# Altium schematic symbol library WE-XTAL.SchLib: 324 symbols (part 2 of 6)
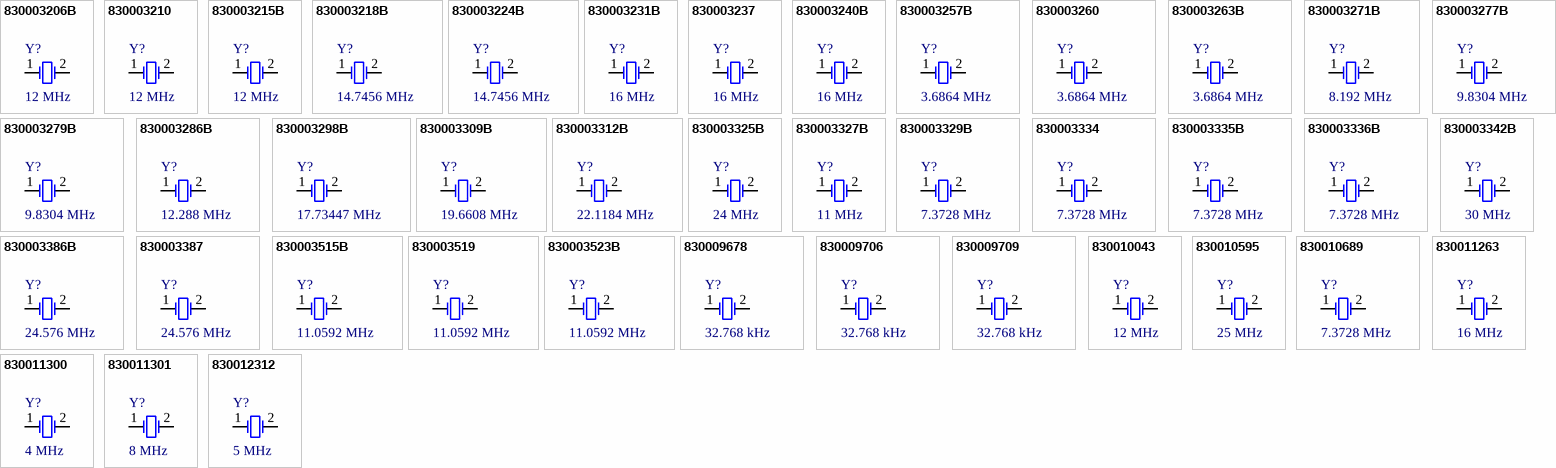
[diagram p9: symbols 830003206B to 830012312]

## 830003335B
designator Y?, comment 7.3728 MHz
WE-XTAL Quartz Crystal, THT, HC49/4H, 7.3728 MHz, ±30ppm; Manufacturer Part Number: 830003335B; Manufacturer: Wurth Elektronik; Frequency Stability: 50ppm; Load Capacitance: 30pF; Category: Crystals; Match Code: WE-XTAL; ComponentLink1Description: Website Link; ComponentLink1URL: https://www.we-online.com/redexpert/article/830003335B?ad; ComponentLink2Description: Datasheet Link; ComponentLink2URL: https://www.we-online.com/redexpert/spec/830003335B?ad; Mount: Through Hole; Min Operating Temperature: -10°C; Max Operating Temperature: 60°C; Packaging: Bulk; Case/Size Code: HC49/4H; Length: 11.35mm; Width: 4.85mm; Height: 4mm; Application: Processor, UART; Frequency: 7.3728 MHz; Frequency Tolerance: ±30ppm
footprint WE-XTAL_HC49/4H
pins: 1 OSC1, 2 OSC2

## 830003336B
designator Y?, comment 7.3728 MHz
WE-XTAL Quartz Crystal, THT, HC49/4H, 7.3728 MHz, ±15ppm; Manufacturer Part Number: 830003336B; Manufacturer: Wurth Elektronik; Frequency Stability: 30ppm; Load Capacitance: 18pF; Category: Crystals; Match Code: WE-XTAL; ComponentLink1Description: Website Link; ComponentLink1URL: https://www.we-online.com/redexpert/article/830003336B?ad; ComponentLink2Description: Datasheet Link; ComponentLink2URL: https://www.we-online.com/redexpert/spec/830003336B?ad; Mount: Through Hole; Min Operating Temperature: -10°C; Max Operating Temperature: 60°C; Packaging: Bulk; Case/Size Code: HC49/4H; Length: 11.35mm; Width: 4.85mm; Height: 4mm; Application: Processor, UART; Frequency: 7.3728 MHz; Frequency Tolerance: ±15ppm
footprint WE-XTAL_HC49/4H
pins: 1 OSC1, 2 OSC2

## 830003342B
designator Y?, comment 30 MHz
WE-XTAL Quartz Crystal, THT, HC49, 30 MHz, ±20ppm; Manufacturer Part Number: 830003342B; Manufacturer: Wurth Elektronik; Frequency Stability: 50ppm; Load Capacitance: 0pF; Category: Crystals; Match Code: WE-XTAL; ComponentLink1Description: Website Link; ComponentLink1URL: https://www.we-online.com/redexpert/article/830003342B?ad; ComponentLink2Description: Datasheet Link; ComponentLink2URL: https://www.we-online.com/redexpert/spec/830003342B?ad; Mount: Through Hole; Min Operating Temperature: -10°C; Max Operating Temperature: 60°C; Packaging: Bulk; Case/Size Code: HC49; Length: 11.05mm; Width: 4.7mm; Height: 13.49mm; Application: Processor, USB; Frequency: 30 MHz; Frequency Tolerance: ±20ppm
footprint WE-XTAL_HC49
pins: 1 OSC1, 2 OSC2

## 830003386B
designator Y?, comment 24.576 MHz
WE-XTAL Quartz Crystal, THT, HC49, 24.576 MHz, ±20ppm; Manufacturer Part Number: 830003386B; Manufacturer: Wurth Elektronik; Frequency Stability: 50ppm; Load Capacitance: 30pF; Category: Crystals; Match Code: WE-XTAL; ComponentLink1Description: Website Link; ComponentLink1URL: https://www.we-online.com/redexpert/article/830003386B?ad; ComponentLink2Description: Datasheet Link; ComponentLink2URL: https://www.we-online.com/redexpert/spec/830003386B?ad; Mount: Through Hole; Min Operating Temperature: -10°C; Max Operating Temperature: 60°C; Packaging: Bulk; Case/Size Code: HC49; Length: 11.05mm; Width: 4.7mm; Height: 13.49mm; Application: UART, Audio; Frequency: 24.576 MHz; Frequency Tolerance: ±20ppm
footprint WE-XTAL_HC49
pins: 1 OSC1, 2 OSC2

## 830003387
designator Y?, comment 24.576 MHz
WE-XTAL Quartz Crystal, SMT, HC49/4HSMX, 24.576 MHz, ±30ppm; Manufacturer Part Number: 830003387; Manufacturer: Wurth Elektronik; Frequency Stability: 50ppm; Load Capacitance: 20pF; Category: Crystals; Match Code: WE-XTAL; ComponentLink1Description: Website Link; ComponentLink1URL: https://www.we-online.com/redexpert/article/830003387?ad; ComponentLink2Description: Datasheet Link; ComponentLink2URL: https://www.we-online.com/redexpert/spec/830003387?ad; Mount: Surface Mount; Min Operating Temperature: -10°C; Max Operating Temperature: 60°C; Packaging: Tape and Reel; Case/Size Code: HC49/4HSMX; Length: 12.4mm; Width: 4.7mm; Height: 4.5mm; Application: UART, Audio; Frequency: 24.576 MHz; Frequency Tolerance: ±30ppm
footprint WE-XTAL_HC49/4HSMX
pins: 1 OSC1, 2 OSC2

## 830003515B
designator Y?, comment 11.0592 MHz
WE-XTAL Quartz Crystal, THT, HC49, 11.0592 MHz, ±20ppm; Manufacturer Part Number: 830003515B; Manufacturer: Wurth Elektronik; Frequency Stability: 30ppm; Load Capacitance: 20pF; Category: Crystals; Match Code: WE-XTAL; ComponentLink1Description: Website Link; ComponentLink1URL: https://www.we-online.com/redexpert/article/830003515B?ad; ComponentLink2Description: Datasheet Link; ComponentLink2URL: https://www.we-online.com/redexpert/spec/830003515B?ad; Mount: Through Hole; Min Operating Temperature: -10°C; Max Operating Temperature: 60°C; Packaging: Bulk; Case/Size Code: HC49; Length: 11.05mm; Width: 4.7mm; Height: 13.49mm; Application: Processor, UART; Frequency: 11.0592 MHz; Frequency Tolerance: ±20ppm
footprint WE-XTAL_HC49
pins: 1 OSC1, 2 OSC2

## 830003519
designator Y?, comment 11.0592 MHz
WE-XTAL Quartz Crystal, SMT, HC49/4HSMX, 11.0592 MHz, ±30ppm; Manufacturer Part Number: 830003519; Manufacturer: Wurth Elektronik; Frequency Stability: 50ppm; Load Capacitance: 16pF; Category: Crystals; Match Code: WE-XTAL; ComponentLink1Description: Website Link; ComponentLink1URL: https://www.we-online.com/redexpert/article/830003519?ad; ComponentLink2Description: Datasheet Link; ComponentLink2URL: https://www.we-online.com/redexpert/spec/830003519?ad; Mount: Surface Mount; Min Operating Temperature: -10°C; Max Operating Temperature: 60°C; Packaging: Tape and Reel; Case/Size Code: HC49/4HSMX; Length: 12.4mm; Width: 4.7mm; Height: 4.5mm; Application: Processor, UART; Frequency: 11.0592 MHz; Frequency Tolerance: ±30ppm
footprint WE-XTAL_HC49/4HSMX
pins: 1 OSC1, 2 OSC2

## 830003523B
designator Y?, comment 11.0592 MHz
WE-XTAL Quartz Crystal, THT, HC49/4H, 11.0592 MHz, ±30ppm; Manufacturer Part Number: 830003523B; Manufacturer: Wurth Elektronik; Frequency Stability: 50ppm; Load Capacitance: 30pF; Category: Crystals; Match Code: WE-XTAL; ComponentLink1Description: Website Link; ComponentLink1URL: https://www.we-online.com/redexpert/article/830003523B?ad; ComponentLink2Description: Datasheet Link; ComponentLink2URL: https://www.we-online.com/redexpert/spec/830003523B?ad; Mount: Through Hole; Min Operating Temperature: -20°C; Max Operating Temperature: 70°C; Packaging: Bulk; Case/Size Code: HC49/4H; Length: 11.35mm; Width: 4.85mm; Height: 4mm; Application: Processor, UART; Frequency: 11.0592 MHz; Frequency Tolerance: ±30ppm
footprint WE-XTAL_HC49/4H
pins: 1 OSC1, 2 OSC2

## 830009678
designator Y?, comment 32.768 kHz
WE-XTAL Watch Crystal, SMT, CFPX-217, 32.768 kHz, ±20ppm; Manufacturer Part Number: 830009678; Manufacturer: Wurth Elektronik; Load Capacitance: 12.5pF; Category: Crystals; Match Code: WE-XTAL; ComponentLink1Description: Website Link; ComponentLink1URL: https://www.we-online.com/redexpert/article/830009678?ad; ComponentLink2Description: Datasheet Link; ComponentLink2URL: https://www.we-online.com/redexpert/spec/830009678?ad; Mount: Surface Mount; Min Operating Temperature: -40°C; Max Operating Temperature: 85°C; Packaging: Tape and Reel; Case/Size Code: CFPX-217; Length: 3.2mm; Width: 1.5mm; Height: 0.9mm; Application: Real Time Clock; Frequency: 32.768 kHz; Frequency Tolerance: ±20ppm
footprint WE-XTAL_CFPX-217
pins: 1 OSC1, 2 OSC2

## 830009706
designator Y?, comment 32.768 kHz
WE-XTAL Watch Crystal, SMT, CFPX-217, 32.768 kHz, ±20ppm; Manufacturer Part Number: 830009706; Manufacturer: Wurth Elektronik; Load Capacitance: 9pF; Category: Crystals; Match Code: WE-XTAL; ComponentLink1Description: Website Link; ComponentLink1URL: https://www.we-online.com/redexpert/article/830009706?ad; ComponentLink2Description: Datasheet Link; ComponentLink2URL: https://www.we-online.com/redexpert/spec/830009706?ad; Mount: Surface Mount; Min Operating Temperature: -40°C; Max Operating Temperature: 85°C; Packaging: Tape and Reel; Case/Size Code: CFPX-217; Length: 3.2mm; Width: 1.5mm; Height: 0.9mm; Application: Real Time Clock; Frequency: 32.768 kHz; Frequency Tolerance: ±20ppm
footprint WE-XTAL_CFPX-217
pins: 1 OSC1, 2 OSC2

## 830009709
designator Y?, comment 32.768 kHz
WE-XTAL Watch Crystal, SMT, CFPX-217, 32.768 kHz, ±20ppm; Manufacturer Part Number: 830009709; Manufacturer: Wurth Elektronik; Load Capacitance: 7pF; Category: Crystals; Match Code: WE-XTAL; ComponentLink1Description: Website Link; ComponentLink1URL: https://www.we-online.com/redexpert/article/830009709?ad; ComponentLink2Description: Datasheet Link; ComponentLink2URL: https://www.we-online.com/redexpert/spec/830009709?ad; Mount: Surface Mount; Min Operating Temperature: -40°C; Max Operating Temperature: 85°C; Packaging: Tape and Reel; Case/Size Code: CFPX-217; Length: 3.2mm; Width: 1.5mm; Height: 0.9mm; Application: Real Time Clock; Frequency: 32.768 kHz; Frequency Tolerance: ±20ppm
footprint WE-XTAL_CFPX-217
pins: 1 OSC1, 2 OSC2

## 830010043
designator Y?, comment 12 MHz
WE-XTAL Quartz Crystal, SMT, HC49/4HSMX, 12 MHz, ±30ppm; Manufacturer Part Number: 830010043; Manufacturer: Wurth Elektronik; Frequency Stability: 50ppm; Load Capacitance: 30pF; Category: Crystals; Match Code: WE-XTAL; ComponentLink1Description: Website Link; ComponentLink1URL: https://www.we-online.com/redexpert/article/830010043?ad; ComponentLink2Description: Datasheet Link; ComponentLink2URL: https://www.we-online.com/redexpert/spec/830010043?ad; Mount: Surface Mount; Min Operating Temperature: -10°C; Max Operating Temperature: 60°C; Packaging: Tape and Reel; Case/Size Code: HC49/4HSMX; Length: 12.4mm; Width: 4.7mm; Height: 4.5mm; Application: Processor, USB, CAN; Frequency: 12 MHz; Frequency Tolerance: ±30ppm
footprint WE-XTAL_HC49/4HSMX
pins: 1 OSC1, 2 OSC2

## 830010595
designator Y?, comment 25 MHz
WE-XTAL Quartz Crystal, SMT, HC49/4HSMX, 25 MHz, ±30ppm; Manufacturer Part Number: 830010595; Manufacturer: Wurth Elektronik; Frequency Stability: 50ppm; Load Capacitance: 16pF; Category: Crystals; Match Code: WE-XTAL; ComponentLink1Description: Website Link; ComponentLink1URL: https://www.we-online.com/redexpert/article/830010595?ad; ComponentLink2Description: Datasheet Link; ComponentLink2URL: https://www.we-online.com/redexpert/spec/830010595?ad; Mount: Surface Mount; Min Operating Temperature: -10°C; Max Operating Temperature: 60°C; Packaging: Tape and Reel; Case/Size Code: HC49/4HSMX; Length: 12.4mm; Width: 4.7mm; Height: 4.5mm; Application: Processor, USB, 3G/4G/5G, Ethernet, Small Cell, PHY, PCI Express; Frequency: 25 MHz; Frequency Tolerance: ±30ppm
footprint WE-XTAL_HC49/4HSMX
pins: 1 OSC1, 2 OSC2

## 830010689
designator Y?, comment 7.3728 MHz
WE-XTAL Quartz Crystal, SMT, HC49/4HSMX, 7.3728 MHz, ±30ppm; Manufacturer Part Number: 830010689; Manufacturer: Wurth Elektronik; Frequency Stability: 50ppm; Load Capacitance: 30pF; Category: Crystals; Match Code: WE-XTAL; ComponentLink1Description: Website Link; ComponentLink1URL: https://www.we-online.com/redexpert/article/830010689?ad; ComponentLink2Description: Datasheet Link; ComponentLink2URL: https://www.we-online.com/redexpert/spec/830010689?ad; Mount: Surface Mount; Min Operating Temperature: -10°C; Max Operating Temperature: 60°C; Packaging: Tape and Reel; Case/Size Code: HC49/4HSMX; Length: 12.4mm; Width: 4.7mm; Height: 4.5mm; Application: Processor, UART; Frequency: 7.3728 MHz; Frequency Tolerance: ±30ppm
footprint WE-XTAL_HC49/4HSMX
pins: 1 OSC1, 2 OSC2

## 830011263
designator Y?, comment 16 MHz
WE-XTAL Quartz Crystal, SMT, HC49/4HSMX, 16 MHz, ±30ppm; Manufacturer Part Number: 830011263; Manufacturer: Wurth Elektronik; Frequency Stability: 50ppm; Load Capacitance: 30pF; Category: Crystals; Match Code: WE-XTAL; ComponentLink1Description: Website Link; ComponentLink1URL: https://www.we-online.com/redexpert/article/830011263?ad; ComponentLink2Description: Datasheet Link; ComponentLink2URL: https://www.we-online.com/redexpert/spec/830011263?ad; Mount: Surface Mount; Min Operating Temperature: -10°C; Max Operating Temperature: 60°C; Packaging: Tape and Reel; Case/Size Code: HC49/4HSMX; Length: 12.4mm; Width: 4.7mm; Height: 4.5mm; Application: Processor, CAN, Bluetooth; Frequency: 16 MHz; Frequency Tolerance: ±30ppm
footprint WE-XTAL_HC49/4HSMX
pins: 1 OSC1, 2 OSC2

## 830011300
designator Y?, comment 4 MHz
WE-XTAL Quartz Crystal, SMT, HC49/4HSMX, 4 MHz, ±30ppm; Manufacturer Part Number: 830011300; Manufacturer: Wurth Elektronik; Frequency Stability: 50ppm; Load Capacitance: 30pF; Category: Crystals; Match Code: WE-XTAL; ComponentLink1Description: Website Link; ComponentLink1URL: https://www.we-online.com/redexpert/article/830011300?ad; ComponentLink2Description: Datasheet Link; ComponentLink2URL: https://www.we-online.com/redexpert/spec/830011300?ad; Mount: Surface Mount; Min Operating Temperature: -10°C; Max Operating Temperature: 60°C; Packaging: Tape and Reel; Case/Size Code: HC49/4HSMX; Length: 12.4mm; Width: 4.7mm; Height: 4.5mm; Application: CAN, Processor; Frequency: 4 MHz; Frequency Tolerance: ±30ppm
footprint WE-XTAL_HC49/4HSMX
pins: 1 OSC1, 2 OSC2

## 830011301
designator Y?, comment 8 MHz
WE-XTAL Quartz Crystal, SMT, HC49/4HSMX, 8 MHz, ±30ppm; Manufacturer Part Number: 830011301; Manufacturer: Wurth Elektronik; Frequency Stability: 50ppm; Load Capacitance: 30pF; Category: Crystals; Match Code: WE-XTAL; ComponentLink1Description: Website Link; ComponentLink1URL: https://www.we-online.com/redexpert/article/830011301?ad; ComponentLink2Description: Datasheet Link; ComponentLink2URL: https://www.we-online.com/redexpert/spec/830011301?ad; Mount: Surface Mount; Min Operating Temperature: -10°C; Max Operating Temperature: 60°C; Packaging: Tape and Reel; Case/Size Code: HC49/4HSMX; Length: 12.4mm; Width: 4.7mm; Height: 4.5mm; Application: Processor, UART; Frequency: 8 MHz; Frequency Tolerance: ±30ppm
footprint WE-XTAL_HC49/4HSMX
pins: 1 OSC1, 2 OSC2

## 830012312
designator Y?, comment 5 MHz
WE-XTAL Quartz Crystal, SMT, HC49/4HSMX, 5 MHz, ±30ppm; Manufacturer Part Number: 830012312; Manufacturer: Wurth Elektronik; Frequency Stability: 50ppm; Load Capacitance: 30pF; Category: Crystals; Match Code: WE-XTAL; ComponentLink1Description: Website Link; ComponentLink1URL: https://www.we-online.com/redexpert/article/830012312?ad; ComponentLink2Description: Datasheet Link; ComponentLink2URL: https://www.we-online.com/redexpert/spec/830012312?ad; Mount: Surface Mount; Min Operating Temperature: -10°C; Max Operating Temperature: 60°C; Packaging: Tape and Reel; Case/Size Code: HC49/4HSMX; Length: 12.4mm; Width: 4.7mm; Height: 4.5mm; Application: Processor; Frequency: 5 MHz; Frequency Tolerance: ±30ppm
footprint WE-XTAL_HC49/4HSMX
pins: 1 OSC1, 2 OSC2

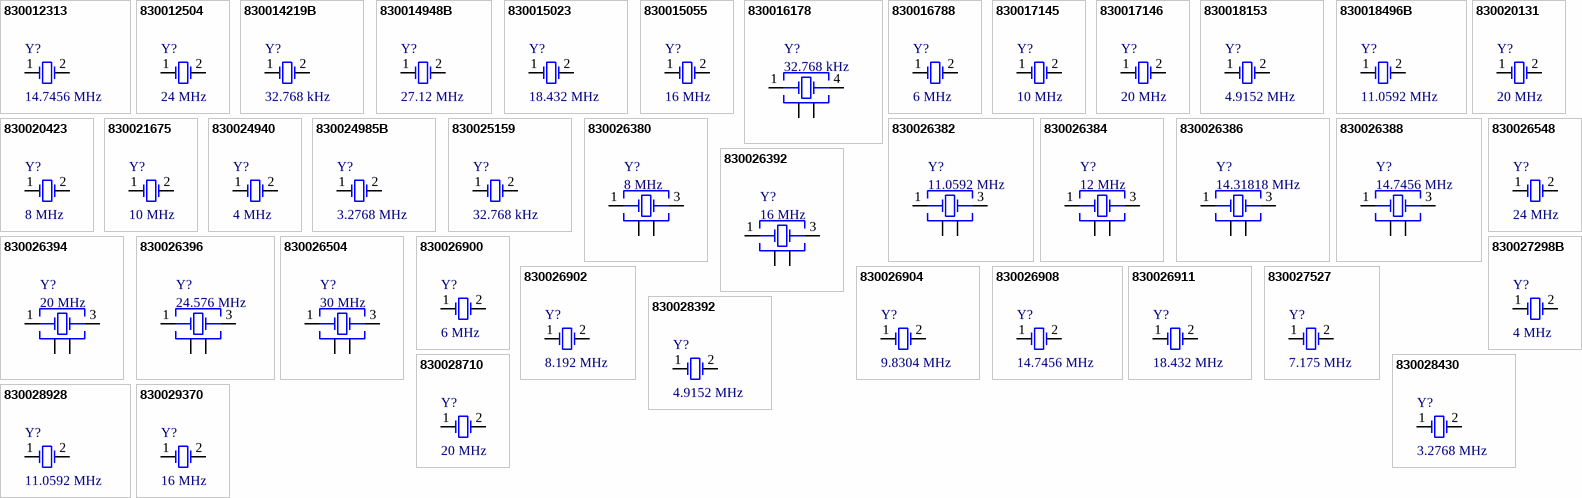
[diagram p2: symbols 830012313 to 830029370]

## 830012313
designator Y?, comment 14.7456 MHz
WE-XTAL Quartz Crystal, SMT, HC49/4HSMX, 14.7456 MHz, ±30ppm; Manufacturer Part Number: 830012313; Manufacturer: Wurth Elektronik; Frequency Stability: 50ppm; Load Capacitance: 30pF; Category: Crystals; Match Code: WE-XTAL; ComponentLink1Description: Website Link; ComponentLink1URL: https://www.we-online.com/redexpert/article/830012313?ad; ComponentLink2Description: Datasheet Link; ComponentLink2URL: https://www.we-online.com/redexpert/spec/830012313?ad; Mount: Surface Mount; Min Operating Temperature: -10°C; Max Operating Temperature: 60°C; Packaging: Tape and Reel; Case/Size Code: HC49/4HSMX; Length: 12.4mm; Width: 4.7mm; Height: 4.5mm; Application: UART; Frequency: 14.7456 MHz; Frequency Tolerance: ±30ppm
footprint WE-XTAL_HC49/4HSMX
pins: 1 OSC1, 2 OSC2

## 830012504
designator Y?, comment 24 MHz
WE-XTAL Quartz Crystal, SMT, HC49/4HSMX, 24 MHz, ±30ppm; Manufacturer Part Number: 830012504; Manufacturer: Wurth Elektronik; Frequency Stability: 50ppm; Load Capacitance: 16pF; Category: Crystals; Match Code: WE-XTAL; ComponentLink1Description: Website Link; ComponentLink1URL: https://www.we-online.com/redexpert/article/830012504?ad; ComponentLink2Description: Datasheet Link; ComponentLink2URL: https://www.we-online.com/redexpert/spec/830012504?ad; Mount: Surface Mount; Min Operating Temperature: -10°C; Max Operating Temperature: 60°C; Packaging: Tape and Reel; Case/Size Code: HC49/4HSMX; Length: 12.4mm; Width: 4.7mm; Height: 4.5mm; Application: Processor, USB, Bluetooth; Frequency: 24 MHz; Frequency Tolerance: ±30ppm
footprint WE-XTAL_HC49/4HSMX
pins: 1 OSC1, 2 OSC2

## 830014219B
designator Y?, comment 32.768 kHz
WE-XTAL Watch Crystal, THT, WATCH, 32.768 kHz, ±20ppm; Manufacturer Part Number: 830014219B; Manufacturer: Wurth Elektronik; Load Capacitance: 6pF; Category: Crystals; Match Code: WE-XTAL; ComponentLink1Description: Website Link; ComponentLink1URL: https://www.we-online.com/redexpert/article/830014219B?ad; ComponentLink2Description: Datasheet Link; ComponentLink2URL: https://www.we-online.com/redexpert/spec/830014219B?ad; Mount: Through Hole; Min Operating Temperature: -40°C; Max Operating Temperature: 85°C; Packaging: Bulk; Case/Size Code: WATCH; Height: 6.2mm; Diameter: 2mm; Application: Real Time Clock; Frequency: 32.768 kHz; Frequency Tolerance: ±20ppm
footprint WE-XTAL_WATCH_D2H6.2
pins: 1 OSC1, 2 OSC2

## 830014948B
designator Y?, comment 27.12 MHz
WE-XTAL Quartz Crystal, THT, HC49/4H, 27.12 MHz, ±30ppm; Manufacturer Part Number: 830014948B; Manufacturer: Wurth Elektronik; Frequency Stability: 50ppm; Load Capacitance: 0pF; Category: Crystals; Match Code: WE-XTAL; ComponentLink1Description: Website Link; ComponentLink1URL: https://www.we-online.com/redexpert/article/830014948B?ad; ComponentLink2Description: Datasheet Link; ComponentLink2URL: https://www.we-online.com/redexpert/spec/830014948B?ad; Mount: Through Hole; Min Operating Temperature: -10°C; Max Operating Temperature: 60°C; Packaging: Bulk; Case/Size Code: HC49/4H; Length: 11.35mm; Width: 4.85mm; Height: 4mm; Application: NFC, RFID; Frequency: 27.12 MHz; Frequency Tolerance: ±30ppm
footprint WE-XTAL_HC49/4H
pins: 1 OSC1, 2 OSC2

## 830015023
designator Y?, comment 18.432 MHz
WE-XTAL Quartz Crystal, SMT, HC49/4HSMX, 18.432 MHz, ±30ppm; Manufacturer Part Number: 830015023; Manufacturer: Wurth Elektronik; Frequency Stability: 50ppm; Load Capacitance: 30pF; Category: Crystals; Match Code: WE-XTAL; ComponentLink1Description: Website Link; ComponentLink1URL: https://www.we-online.com/redexpert/article/830015023?ad; ComponentLink2Description: Datasheet Link; ComponentLink2URL: https://www.we-online.com/redexpert/spec/830015023?ad; Mount: Surface Mount; Min Operating Temperature: -20°C; Max Operating Temperature: 70°C; Packaging: Tape and Reel; Case/Size Code: HC49/4HSMX; Length: 12.4mm; Width: 4.7mm; Height: 4.5mm; Application: UART, Audio; Frequency: 18.432 MHz; Frequency Tolerance: ±30ppm
footprint WE-XTAL_HC49/4HSMX
pins: 1 OSC1, 2 OSC2

## 830015055
designator Y?, comment 16 MHz
WE-XTAL Quartz Crystal, SMT, HC49/4HSMX, 16 MHz, ±30ppm; Manufacturer Part Number: 830015055; Manufacturer: Wurth Elektronik; Frequency Stability: 50ppm; Load Capacitance: 20pF; Category: Crystals; Match Code: WE-XTAL; ComponentLink1Description: Website Link; ComponentLink1URL: https://www.we-online.com/redexpert/article/830015055?ad; ComponentLink2Description: Datasheet Link; ComponentLink2URL: https://www.we-online.com/redexpert/spec/830015055?ad; Mount: Surface Mount; Min Operating Temperature: -10°C; Max Operating Temperature: 60°C; Packaging: Tape and Reel; Case/Size Code: HC49/4HSMX; Length: 12.4mm; Width: 4.7mm; Height: 4.5mm; Application: Processor, CAN, Bluetooth; Frequency: 16 MHz; Frequency Tolerance: ±30ppm
footprint WE-XTAL_HC49/4HSMX
pins: 1 OSC1, 2 OSC2

## 830016178
designator Y?, comment 32.768 kHz
WE-XTAL Watch Crystal, SMT, 85SMX, 32.768 kHz, ±20ppm; Manufacturer Part Number: 830016178; Manufacturer: Wurth Elektronik; Load Capacitance: 6pF; Category: Crystals; Match Code: WE-XTAL; ComponentLink1Description: Website Link; ComponentLink1URL: https://www.we-online.com/redexpert/article/830016178?ad; ComponentLink2Description: Datasheet Link; ComponentLink2URL: https://www.we-online.com/redexpert/spec/830016178?ad; Mount: Surface Mount; Min Operating Temperature: -40°C; Max Operating Temperature: 85°C; Packaging: Tape and Reel; Case/Size Code: 85SMX; Length: 8.7mm; Width: 3.7mm; Height: 2.5mm; Application: Real Time Clock; Frequency: 32.768 kHz; Frequency Tolerance: ±20ppm
footprint WE-XTAL_85SMX
pins: 1 Crystal, 2 GND, 3 GND, 4 Crystal

## 830016788
designator Y?, comment 6 MHz
WE-XTAL Quartz Crystal, SMT, HC49/4HSMX, 6 MHz, ±30ppm; Manufacturer Part Number: 830016788; Manufacturer: Wurth Elektronik; Frequency Stability: 50ppm; Load Capacitance: 30pF; Category: Crystals; Match Code: WE-XTAL; ComponentLink1Description: Website Link; ComponentLink1URL: https://www.we-online.com/redexpert/article/830016788?ad; ComponentLink2Description: Datasheet Link; ComponentLink2URL: https://www.we-online.com/redexpert/spec/830016788?ad; Mount: Surface Mount; Min Operating Temperature: -10°C; Max Operating Temperature: 60°C; Packaging: Tape and Reel; Case/Size Code: HC49/4HSMX; Length: 12.4mm; Width: 4.7mm; Height: 4.5mm; Application: Processor, USB; Frequency: 6 MHz; Frequency Tolerance: ±30ppm
footprint WE-XTAL_HC49/4HSMX
pins: 1 OSC1, 2 OSC2

## 830017145
designator Y?, comment 10 MHz
WE-XTAL Quartz Crystal, SMT, HC49/4HSMX, 10 MHz, ±30ppm; Manufacturer Part Number: 830017145; Manufacturer: Wurth Elektronik; Frequency Stability: 50ppm; Load Capacitance: 30pF; Category: Crystals; Match Code: WE-XTAL; ComponentLink1Description: Website Link; ComponentLink1URL: https://www.we-online.com/redexpert/article/830017145?ad; ComponentLink2Description: Datasheet Link; ComponentLink2URL: https://www.we-online.com/redexpert/spec/830017145?ad; Mount: Surface Mount; Min Operating Temperature: -10°C; Max Operating Temperature: 60°C; Packaging: Tape and Reel; Case/Size Code: HC49/4HSMX; Length: 12.4mm; Width: 4.7mm; Height: 4.5mm; Application: Processor, Ethernet; Frequency: 10 MHz; Frequency Tolerance: ±30ppm
footprint WE-XTAL_HC49/4HSMX
pins: 1 OSC1, 2 OSC2

## 830017146
designator Y?, comment 20 MHz
WE-XTAL Quartz Crystal, SMT, HC49/4HSMX, 20 MHz, ±30ppm; Manufacturer Part Number: 830017146; Manufacturer: Wurth Elektronik; Frequency Stability: 50ppm; Load Capacitance: 30pF; Category: Crystals; Match Code: WE-XTAL; ComponentLink1Description: Website Link; ComponentLink1URL: https://www.we-online.com/redexpert/article/830017146?ad; ComponentLink2Description: Datasheet Link; ComponentLink2URL: https://www.we-online.com/redexpert/spec/830017146?ad; Mount: Surface Mount; Min Operating Temperature: -10°C; Max Operating Temperature: 60°C; Packaging: Tape and Reel; Case/Size Code: HC49/4HSMX; Length: 12.4mm; Width: 4.7mm; Height: 4.5mm; Application: Processor, CAN, USB, Ethernet, Wi-Fi; Frequency: 20 MHz; Frequency Tolerance: ±30ppm
footprint WE-XTAL_HC49/4HSMX
pins: 1 OSC1, 2 OSC2

## 830018153
designator Y?, comment 4.9152 MHz
WE-XTAL Quartz Crystal, SMT, HC49/4HSMX, 4.9152 MHz, ±30ppm; Manufacturer Part Number: 830018153; Manufacturer: Wurth Elektronik; Frequency Stability: 50ppm; Load Capacitance: 16pF; Category: Crystals; Match Code: WE-XTAL; ComponentLink1Description: Website Link; ComponentLink1URL: https://www.we-online.com/redexpert/article/830018153?ad; ComponentLink2Description: Datasheet Link; ComponentLink2URL: https://www.we-online.com/redexpert/spec/830018153?ad; Mount: Surface Mount; Min Operating Temperature: -10°C; Max Operating Temperature: 60°C; Packaging: Tape and Reel; Case/Size Code: HC49/4HSMX; Length: 12.4mm; Width: 4.7mm; Height: 4.5mm; Application: UART; Frequency: 4.9152 MHz; Frequency Tolerance: ±30ppm
footprint WE-XTAL_HC49/4HSMX
pins: 1 OSC1, 2 OSC2

## 830018496B
designator Y?, comment 11.0592 MHz
WE-XTAL Quartz Crystal, THT, HC49/4H, 11.0592 MHz, ±30ppm; Manufacturer Part Number: 830018496B; Manufacturer: Wurth Elektronik; Frequency Stability: 50ppm; Load Capacitance: 18pF; Category: Crystals; Match Code: WE-XTAL; ComponentLink1Description: Website Link; ComponentLink1URL: https://www.we-online.com/redexpert/article/830018496B?ad; ComponentLink2Description: Datasheet Link; ComponentLink2URL: https://www.we-online.com/redexpert/spec/830018496B?ad; Mount: Through Hole; Min Operating Temperature: -20°C; Max Operating Temperature: 70°C; Packaging: Bulk; Case/Size Code: HC49/4H; Length: 11.35mm; Width: 4.85mm; Height: 4mm; Application: Processor, UART; Frequency: 11.0592 MHz; Frequency Tolerance: ±30ppm
footprint WE-XTAL_HC49/4H
pins: 1 OSC1, 2 OSC2

## 830020131
designator Y?, comment 20 MHz
WE-XTAL Quartz Crystal, SMT, HC49/4HSMX, 20 MHz, ±30ppm; Manufacturer Part Number: 830020131; Manufacturer: Wurth Elektronik; Frequency Stability: 50ppm; Load Capacitance: 18pF; Category: Crystals; Match Code: WE-XTAL; ComponentLink1Description: Website Link; ComponentLink1URL: https://www.we-online.com/redexpert/article/830020131?ad; ComponentLink2Description: Datasheet Link; ComponentLink2URL: https://www.we-online.com/redexpert/spec/830020131?ad; Mount: Surface Mount; Min Operating Temperature: -20°C; Max Operating Temperature: 70°C; Packaging: Tape and Reel; Case/Size Code: HC49/4HSMX; Length: 12.4mm; Width: 4.7mm; Height: 4.5mm; Application: Processor, CAN, USB, Ethernet, Wi-Fi; Frequency: 20 MHz; Frequency Tolerance: ±30ppm
footprint WE-XTAL_HC49/4HSMX
pins: 1 OSC1, 2 OSC2

## 830020423
designator Y?, comment 8 MHz
WE-XTAL Quartz Crystal, SMT, HC49/4HSMX, 8 MHz, ±30ppm; Manufacturer Part Number: 830020423; Manufacturer: Wurth Elektronik; Frequency Stability: 50ppm; Load Capacitance: 18pF; Category: Crystals; Match Code: WE-XTAL; ComponentLink1Description: Website Link; ComponentLink1URL: https://www.we-online.com/redexpert/article/830020423?ad; ComponentLink2Description: Datasheet Link; ComponentLink2URL: https://www.we-online.com/redexpert/spec/830020423?ad; Mount: Surface Mount; Min Operating Temperature: -20°C; Max Operating Temperature: 70°C; Packaging: Tape and Reel; Case/Size Code: HC49/4HSMX; Length: 12.4mm; Width: 4.7mm; Height: 4.5mm; Application: Processor, UART; Frequency: 8 MHz; Frequency Tolerance: ±30ppm
footprint WE-XTAL_HC49/4HSMX
pins: 1 OSC1, 2 OSC2

## 830021675
designator Y?, comment 10 MHz
WE-XTAL Quartz Crystal, SMT, HC49/4HSMX, 10 MHz, ±30ppm; Manufacturer Part Number: 830021675; Manufacturer: Wurth Elektronik; Frequency Stability: 50ppm; Load Capacitance: 18pF; Category: Crystals; Match Code: WE-XTAL; ComponentLink1Description: Website Link; ComponentLink1URL: https://www.we-online.com/redexpert/article/830021675?ad; ComponentLink2Description: Datasheet Link; ComponentLink2URL: https://www.we-online.com/redexpert/spec/830021675?ad; Mount: Surface Mount; Min Operating Temperature: -20°C; Max Operating Temperature: 70°C; Packaging: Tape and Reel; Case/Size Code: HC49/4HSMX; Length: 12.4mm; Width: 4.7mm; Height: 4.5mm; Application: Processor, Ethernet; Frequency: 10 MHz; Frequency Tolerance: ±30ppm
footprint WE-XTAL_HC49/4HSMX
pins: 1 OSC1, 2 OSC2

## 830024940
designator Y?, comment 4 MHz
WE-XTAL Quartz Crystal, SMT, HC49/4HSMX, 4 MHz, ±30ppm; Manufacturer Part Number: 830024940; Manufacturer: Wurth Elektronik; Frequency Stability: 50ppm; Load Capacitance: 18pF; Category: Crystals; Match Code: WE-XTAL; ComponentLink1Description: Website Link; ComponentLink1URL: https://www.we-online.com/redexpert/article/830024940?ad; ComponentLink2Description: Datasheet Link; ComponentLink2URL: https://www.we-online.com/redexpert/spec/830024940?ad; Mount: Surface Mount; Min Operating Temperature: -20°C; Max Operating Temperature: 70°C; Packaging: Tape and Reel; Case/Size Code: HC49/4HSMX; Length: 12.4mm; Width: 4.7mm; Height: 4.5mm; Application: CAN, Processor; Frequency: 4 MHz; Frequency Tolerance: ±30ppm
footprint WE-XTAL_HC49/4HSMX
pins: 1 OSC1, 2 OSC2

## 830024985B
designator Y?, comment 3.2768 MHz
WE-XTAL Quartz Crystal, THT, HC49/4H, 3.2768 MHz, ±30ppm; Manufacturer Part Number: 830024985B; Manufacturer: Wurth Elektronik; Frequency Stability: 50ppm; Load Capacitance: 12pF; Category: Crystals; Match Code: WE-XTAL; ComponentLink1Description: Website Link; ComponentLink1URL: https://www.we-online.com/redexpert/article/830024985B?ad; ComponentLink2Description: Datasheet Link; ComponentLink2URL: https://www.we-online.com/redexpert/spec/830024985B?ad; Mount: Through Hole; Min Operating Temperature: -10°C; Max Operating Temperature: 60°C; Packaging: Bulk; Case/Size Code: HC49/4H; Length: 11.35mm; Width: 4.85mm; Height: 4mm; Application: Processor; Frequency: 3.2768 MHz; Frequency Tolerance: ±30ppm
footprint WE-XTAL_HC49/4H
pins: 1 OSC1, 2 OSC2

## 830025159
designator Y?, comment 32.768 kHz
WE-XTAL Watch Crystal, SMT, CFPX-56, 32.768 kHz, ±20ppm; Manufacturer Part Number: 830025159; Manufacturer: Wurth Elektronik; Load Capacitance: 12.5pF; Category: Crystals; Match Code: WE-XTAL; ComponentLink1Description: Website Link; ComponentLink1URL: https://www.we-online.com/redexpert/article/830025159?ad; ComponentLink2Description: Datasheet Link; ComponentLink2URL: https://www.we-online.com/redexpert/spec/830025159?ad; Mount: Surface Mount; Min Operating Temperature: -40°C; Max Operating Temperature: 85°C; Packaging: Tape and Reel; Case/Size Code: CFPX-56; Length: 9.5mm; Width: 2.54mm; Height: 2.54mm; Application: Real Time Clock; Frequency: 32.768 kHz; Frequency Tolerance: ±20ppm
footprint WE-XTAL_CFPX-56
pins: 1 OSC1, 2 OSC2

## 830026380
designator Y?, comment 8 MHz
WE-XTAL Quartz Crystal, SMT, 12SMX, 8 MHz, ±30ppm; Manufacturer Part Number: 830026380; Manufacturer: Wurth Elektronik; Frequency Stability: 50ppm; Load Capacitance: 16pF; Category: Crystals; Match Code: WE-XTAL; ComponentLink1Description: Website Link; ComponentLink1URL: https://www.we-online.com/redexpert/article/830026380?ad; ComponentLink2Description: Datasheet Link; ComponentLink2URL: https://www.we-online.com/redexpert/spec/830026380?ad; Mount: Surface Mount; Min Operating Temperature: -20°C; Max Operating Temperature: 70°C; Packaging: Tape and Reel; Case/Size Code: 12SMX; Length: 7mm; Width: 5mm; Height: 1.4mm; Application: 0; Frequency: 8 MHz; Frequency Tolerance: ±30ppm
footprint WE-XTAL_12SMX
pins: 1 Crystal, 2 GND, 3 Crystal, 4 GND

## 830026382
designator Y?, comment 11.0592 MHz
WE-XTAL Quartz Crystal, SMT, 12SMX, 11.0592 MHz, ±30ppm; Manufacturer Part Number: 830026382; Manufacturer: Wurth Elektronik; Frequency Stability: 50ppm; Load Capacitance: 16pF; Category: Crystals; Match Code: WE-XTAL; ComponentLink1Description: Website Link; ComponentLink1URL: https://www.we-online.com/redexpert/article/830026382?ad; ComponentLink2Description: Datasheet Link; ComponentLink2URL: https://www.we-online.com/redexpert/spec/830026382?ad; Mount: Surface Mount; Min Operating Temperature: -20°C; Max Operating Temperature: 70°C; Packaging: Tape and Reel; Case/Size Code: 12SMX; Length: 7mm; Width: 5mm; Height: 1.4mm; Application: 0; Frequency: 11.0592 MHz; Frequency Tolerance: ±30ppm
footprint WE-XTAL_12SMX
pins: 1 Crystal, 2 GND, 3 Crystal, 4 GND

## 830026384
designator Y?, comment 12 MHz
WE-XTAL Quartz Crystal, SMT, 12SMX, 12 MHz, ±30ppm; Manufacturer Part Number: 830026384; Manufacturer: Wurth Elektronik; Frequency Stability: 50ppm; Load Capacitance: 16pF; Category: Crystals; Match Code: WE-XTAL; ComponentLink1Description: Website Link; ComponentLink1URL: https://www.we-online.com/redexpert/article/830026384?ad; ComponentLink2Description: Datasheet Link; ComponentLink2URL: https://www.we-online.com/redexpert/spec/830026384?ad; Mount: Surface Mount; Min Operating Temperature: -20°C; Max Operating Temperature: 70°C; Packaging: Tape and Reel; Case/Size Code: 12SMX; Length: 7mm; Width: 5mm; Height: 1.4mm; Application: 0; Frequency: 12 MHz; Frequency Tolerance: ±30ppm
footprint WE-XTAL_12SMX
pins: 1 Crystal, 2 GND, 3 Crystal, 4 GND

## 830026386
designator Y?, comment 14.31818 MHz
WE-XTAL Quartz Crystal, SMT, 12SMX, 14.31818 MHz, ±30ppm; Manufacturer Part Number: 830026386; Manufacturer: Wurth Elektronik; Frequency Stability: 50ppm; Load Capacitance: 16pF; Category: Crystals; Match Code: WE-XTAL; ComponentLink1Description: Website Link; ComponentLink1URL: https://www.we-online.com/redexpert/article/830026386?ad; ComponentLink2Description: Datasheet Link; ComponentLink2URL: https://www.we-online.com/redexpert/spec/830026386?ad; Mount: Surface Mount; Min Operating Temperature: -20°C; Max Operating Temperature: 70°C; Packaging: Tape and Reel; Case/Size Code: 12SMX; Length: 7mm; Width: 5mm; Height: 1.4mm; Application: 0; Frequency: 14.31818 MHz; Frequency Tolerance: ±30ppm
footprint WE-XTAL_12SMX
pins: 1 Crystal, 2 GND, 3 Crystal, 4 GND

## 830026388
designator Y?, comment 14.7456 MHz
WE-XTAL Quartz Crystal, SMT, 12SMX, 14.7456 MHz, ±30ppm; Manufacturer Part Number: 830026388; Manufacturer: Wurth Elektronik; Frequency Stability: 50ppm; Load Capacitance: 16pF; Category: Crystals; Match Code: WE-XTAL; ComponentLink1Description: Website Link; ComponentLink1URL: https://www.we-online.com/redexpert/article/830026388?ad; ComponentLink2Description: Datasheet Link; ComponentLink2URL: https://www.we-online.com/redexpert/spec/830026388?ad; Mount: Surface Mount; Min Operating Temperature: -20°C; Max Operating Temperature: 70°C; Packaging: Tape and Reel; Case/Size Code: 12SMX; Length: 7mm; Width: 5mm; Height: 1.4mm; Application: 0; Frequency: 14.7456 MHz; Frequency Tolerance: ±30ppm
footprint WE-XTAL_12SMX
pins: 1 Crystal, 2 GND, 3 Crystal, 4 GND

## 830026392
designator Y?, comment 16 MHz
WE-XTAL Quartz Crystal, SMT, 12SMX, 16 MHz, ±30ppm; Manufacturer Part Number: 830026392; Manufacturer: Wurth Elektronik; Frequency Stability: 50ppm; Load Capacitance: 16pF; Category: Crystals; Match Code: WE-XTAL; ComponentLink1Description: Website Link; ComponentLink1URL: https://www.we-online.com/redexpert/article/830026392?ad; ComponentLink2Description: Datasheet Link; ComponentLink2URL: https://www.we-online.com/redexpert/spec/830026392?ad; Mount: Surface Mount; Min Operating Temperature: -20°C; Max Operating Temperature: 70°C; Packaging: Tape and Reel; Case/Size Code: 12SMX; Length: 7mm; Width: 5mm; Height: 1.4mm; Application: 0; Frequency: 16 MHz; Frequency Tolerance: ±30ppm
footprint WE-XTAL_12SMX
pins: 1 Crystal, 2 GND, 3 Crystal, 4 GND

## 830026394
designator Y?, comment 20 MHz
WE-XTAL Quartz Crystal, SMT, 12SMX, 20 MHz, ±30ppm; Manufacturer Part Number: 830026394; Manufacturer: Wurth Elektronik; Frequency Stability: 50ppm; Load Capacitance: 16pF; Category: Crystals; Match Code: WE-XTAL; ComponentLink1Description: Website Link; ComponentLink1URL: https://www.we-online.com/redexpert/article/830026394?ad; ComponentLink2Description: Datasheet Link; ComponentLink2URL: https://www.we-online.com/redexpert/spec/830026394?ad; Mount: Surface Mount; Min Operating Temperature: -20°C; Max Operating Temperature: 70°C; Packaging: Tape and Reel; Case/Size Code: 12SMX; Length: 7mm; Width: 5mm; Height: 1.4mm; Application: 0; Frequency: 20 MHz; Frequency Tolerance: ±30ppm
footprint WE-XTAL_12SMX
pins: 1 Crystal, 2 GND, 3 Crystal, 4 GND

## 830026396
designator Y?, comment 24.576 MHz
WE-XTAL Quartz Crystal, SMT, 12SMX, 24.576 MHz, ±30ppm; Manufacturer Part Number: 830026396; Manufacturer: Wurth Elektronik; Frequency Stability: 50ppm; Load Capacitance: 16pF; Category: Crystals; Match Code: WE-XTAL; ComponentLink1Description: Website Link; ComponentLink1URL: https://www.we-online.com/redexpert/article/830026396?ad; ComponentLink2Description: Datasheet Link; ComponentLink2URL: https://www.we-online.com/redexpert/spec/830026396?ad; Mount: Surface Mount; Min Operating Temperature: -20°C; Max Operating Temperature: 70°C; Packaging: Tape and Reel; Case/Size Code: 12SMX; Length: 7mm; Width: 5mm; Height: 1.4mm; Application: 0; Frequency: 24.576 MHz; Frequency Tolerance: ±30ppm
footprint WE-XTAL_12SMX
pins: 1 Crystal, 2 GND, 3 Crystal, 4 GND

## 830026504
designator Y?, comment 30 MHz
WE-XTAL Quartz Crystal, SMT, 12SMX, 30 MHz, ±30ppm; Manufacturer Part Number: 830026504; Manufacturer: Wurth Elektronik; Frequency Stability: 50ppm; Load Capacitance: 16pF; Category: Crystals; Match Code: WE-XTAL; ComponentLink1Description: Website Link; ComponentLink1URL: https://www.we-online.com/redexpert/article/830026504?ad; ComponentLink2Description: Datasheet Link; ComponentLink2URL: https://www.we-online.com/redexpert/spec/830026504?ad; Mount: Surface Mount; Min Operating Temperature: -20°C; Max Operating Temperature: 70°C; Packaging: Tape and Reel; Case/Size Code: 12SMX; Length: 7mm; Width: 5mm; Height: 1.4mm; Application: 0; Frequency: 30 MHz; Frequency Tolerance: ±30ppm
footprint WE-XTAL_12SMX
pins: 1 Crystal, 2 GND, 3 Crystal, 4 GND

## 830026548
designator Y?, comment 24 MHz
WE-XTAL Quartz Crystal, SMT, HC49/4HSMX, 24 MHz, ±30ppm; Manufacturer Part Number: 830026548; Manufacturer: Wurth Elektronik; Frequency Stability: 50ppm; Load Capacitance: 18pF; Category: Crystals; Match Code: WE-XTAL; ComponentLink1Description: Website Link; ComponentLink1URL: https://www.we-online.com/redexpert/article/830026548?ad; ComponentLink2Description: Datasheet Link; ComponentLink2URL: https://www.we-online.com/redexpert/spec/830026548?ad; Mount: Surface Mount; Min Operating Temperature: -20°C; Max Operating Temperature: 70°C; Packaging: Tape and Reel; Case/Size Code: HC49/4HSMX; Length: 12.4mm; Width: 4.7mm; Height: 4.5mm; Application: Processor, USB, Bluetooth; Frequency: 24 MHz; Frequency Tolerance: ±30ppm
footprint WE-XTAL_HC49/4HSMX
pins: 1 OSC1, 2 OSC2

## 830026900
designator Y?, comment 6 MHz
WE-XTAL Quartz Crystal, SMT, HC49/4HSMX, 6 MHz, ±20ppm; Manufacturer Part Number: 830026900; Manufacturer: Wurth Elektronik; Frequency Stability: 50ppm; Load Capacitance: 16pF; Category: Crystals; Match Code: WE-XTAL; ComponentLink1Description: Website Link; ComponentLink1URL: https://www.we-online.com/redexpert/article/830026900?ad; ComponentLink2Description: Datasheet Link; ComponentLink2URL: https://www.we-online.com/redexpert/spec/830026900?ad; Mount: Surface Mount; Min Operating Temperature: -10°C; Max Operating Temperature: 60°C; Packaging: Tape and Reel; Case/Size Code: HC49/4HSMX; Length: 12.4mm; Width: 4.7mm; Height: 4.5mm; Application: Processor, USB; Frequency: 6 MHz; Frequency Tolerance: ±20ppm
footprint WE-XTAL_HC49/4HSMX
pins: 1 OSC1, 2 OSC2

## 830026902
designator Y?, comment 8.192 MHz
WE-XTAL Quartz Crystal, SMT, HC49/4HSMX, 8.192 MHz, ±20ppm; Manufacturer Part Number: 830026902; Manufacturer: Wurth Elektronik; Frequency Stability: 50ppm; Load Capacitance: 16pF; Category: Crystals; Match Code: WE-XTAL; ComponentLink1Description: Website Link; ComponentLink1URL: https://www.we-online.com/redexpert/article/830026902?ad; ComponentLink2Description: Datasheet Link; ComponentLink2URL: https://www.we-online.com/redexpert/spec/830026902?ad; Mount: Surface Mount; Min Operating Temperature: -10°C; Max Operating Temperature: 60°C; Packaging: Tape and Reel; Case/Size Code: HC49/4HSMX; Length: 12.4mm; Width: 4.7mm; Height: 4.5mm; Application: Audio; Frequency: 8.192 MHz; Frequency Tolerance: ±20ppm
footprint WE-XTAL_HC49/4HSMX
pins: 1 OSC1, 2 OSC2

## 830026904
designator Y?, comment 9.8304 MHz
WE-XTAL Quartz Crystal, SMT, HC49/4HSMX, 9.8304 MHz, ±20ppm; Manufacturer Part Number: 830026904; Manufacturer: Wurth Elektronik; Frequency Stability: 50ppm; Load Capacitance: 16pF; Category: Crystals; Match Code: WE-XTAL; ComponentLink1Description: Website Link; ComponentLink1URL: https://www.we-online.com/redexpert/article/830026904?ad; ComponentLink2Description: Datasheet Link; ComponentLink2URL: https://www.we-online.com/redexpert/spec/830026904?ad; Mount: Surface Mount; Min Operating Temperature: -10°C; Max Operating Temperature: 60°C; Packaging: Tape and Reel; Case/Size Code: HC49/4HSMX; Length: 12.4mm; Width: 4.7mm; Height: 4.5mm; Application: UART; Frequency: 9.8304 MHz; Frequency Tolerance: ±20ppm
footprint WE-XTAL_HC49/4HSMX
pins: 1 OSC1, 2 OSC2

## 830026908
designator Y?, comment 14.7456 MHz
WE-XTAL Quartz Crystal, SMT, HC49/4HSMX, 14.7456 MHz, ±20ppm; Manufacturer Part Number: 830026908; Manufacturer: Wurth Elektronik; Frequency Stability: 50ppm; Load Capacitance: 16pF; Category: Crystals; Match Code: WE-XTAL; ComponentLink1Description: Website Link; ComponentLink1URL: https://www.we-online.com/redexpert/article/830026908?ad; ComponentLink2Description: Datasheet Link; ComponentLink2URL: https://www.we-online.com/redexpert/spec/830026908?ad; Mount: Surface Mount; Min Operating Temperature: -10°C; Max Operating Temperature: 60°C; Packaging: Tape and Reel; Case/Size Code: HC49/4HSMX; Length: 12.4mm; Width: 4.7mm; Height: 4.5mm; Application: UART; Frequency: 14.7456 MHz; Frequency Tolerance: ±20ppm
footprint WE-XTAL_HC49/4HSMX
pins: 1 OSC1, 2 OSC2

## 830026911
designator Y?, comment 18.432 MHz
WE-XTAL Quartz Crystal, SMT, HC49/4HSMX, 18.432 MHz, ±20ppm; Manufacturer Part Number: 830026911; Manufacturer: Wurth Elektronik; Frequency Stability: 50ppm; Load Capacitance: 16pF; Category: Crystals; Match Code: WE-XTAL; ComponentLink1Description: Website Link; ComponentLink1URL: https://www.we-online.com/redexpert/article/830026911?ad; ComponentLink2Description: Datasheet Link; ComponentLink2URL: https://www.we-online.com/redexpert/spec/830026911?ad; Mount: Surface Mount; Min Operating Temperature: -10°C; Max Operating Temperature: 60°C; Packaging: Tape and Reel; Case/Size Code: HC49/4HSMX; Length: 12.4mm; Width: 4.7mm; Height: 4.5mm; Application: UART, Audio; Frequency: 18.432 MHz; Frequency Tolerance: ±20ppm
footprint WE-XTAL_HC49/4HSMX
pins: 1 OSC1, 2 OSC2

## 830027298B
designator Y?, comment 4 MHz
WE-XTAL Quartz Crystal, THT, HC49/4H, 4 MHz, ±30ppm; Manufacturer Part Number: 830027298B; Manufacturer: Wurth Elektronik; Frequency Stability: 50ppm; Load Capacitance: 18pF; Category: Crystals; Match Code: WE-XTAL; ComponentLink1Description: Website Link; ComponentLink1URL: https://www.we-online.com/redexpert/article/830027298B?ad; ComponentLink2Description: Datasheet Link; ComponentLink2URL: https://www.we-online.com/redexpert/spec/830027298B?ad; Mount: Through Hole; Min Operating Temperature: -20°C; Max Operating Temperature: 70°C; Packaging: Bulk; Case/Size Code: HC49/4H; Length: 11.35mm; Width: 4.85mm; Height: 4mm; Application: CAN, Processor; Frequency: 4 MHz; Frequency Tolerance: ±30ppm
footprint WE-XTAL_HC49/4H
pins: 1 OSC1, 2 OSC2

## 830027527
designator Y?, comment 7.175 MHz
WE-XTAL Quartz Crystal, SMT, HC49/4HSMX, 7.175 MHz, ±50ppm; Manufacturer Part Number: 830027527; Manufacturer: Wurth Elektronik; Frequency Stability: 100ppm; Load Capacitance: 16pF; Category: Crystals; Match Code: WE-XTAL; ComponentLink1Description: Website Link; ComponentLink1URL: https://www.we-online.com/redexpert/article/830027527?ad; ComponentLink2Description: Datasheet Link; ComponentLink2URL: https://www.we-online.com/redexpert/spec/830027527?ad; Mount: Surface Mount; Min Operating Temperature: -55°C; Max Operating Temperature: 105°C; Packaging: Tape and Reel; Case/Size Code: HC49/4HSMX; Length: 12.4mm; Width: 4.7mm; Height: 4.5mm; Application: Processor; Frequency: 7.175 MHz; Frequency Tolerance: ±50ppm
footprint WE-XTAL_HC49/4HSMX
pins: 1 OSC1, 2 OSC2

## 830028392
designator Y?, comment 4.9152 MHz
WE-XTAL Quartz Crystal, SMT, HC49/4HSMX, 4.9152 MHz, ±30ppm; Manufacturer Part Number: 830028392; Manufacturer: Wurth Elektronik; Frequency Stability: 50ppm; Load Capacitance: 18pF; Category: Crystals; Match Code: WE-XTAL; ComponentLink1Description: Website Link; ComponentLink1URL: https://www.we-online.com/redexpert/article/830028392?ad; ComponentLink2Description: Datasheet Link; ComponentLink2URL: https://www.we-online.com/redexpert/spec/830028392?ad; Mount: Surface Mount; Min Operating Temperature: -20°C; Max Operating Temperature: 70°C; Packaging: Tape and Reel; Case/Size Code: HC49/4HSMX; Length: 12.4mm; Width: 4.7mm; Height: 4.5mm; Application: UART; Frequency: 4.9152 MHz; Frequency Tolerance: ±30ppm
footprint WE-XTAL_HC49/4HSMX
pins: 1 OSC1, 2 OSC2

## 830028430
designator Y?, comment 3.2768 MHz
WE-XTAL Quartz Crystal, SMT, HC49/4HSMX, 3.2768 MHz, ±30ppm; Manufacturer Part Number: 830028430; Manufacturer: Wurth Elektronik; Load Capacitance: 18pF; Category: Crystals; Match Code: WE-XTAL; ComponentLink1Description: Website Link; ComponentLink1URL: https://www.we-online.com/redexpert/article/830028430?ad; ComponentLink2Description: Datasheet Link; ComponentLink2URL: https://www.we-online.com/redexpert/spec/830028430?ad; Mount: Surface Mount; Min Operating Temperature: -20°C; Max Operating Temperature: 70°C; Packaging: Tape and Reel; Case/Size Code: HC49/4HSMX; Length: 12.4mm; Width: 4.7mm; Height: 4.5mm; Application: Processor; Frequency: 3.2768 MHz; Frequency Stability: 30ppm; Frequency Tolerance: ±30ppm
footprint WE-XTAL_HC49/4HSMX
pins: 1 OSC1, 2 OSC2

## 830028710
designator Y?, comment 20 MHz
WE-XTAL Quartz Crystal, SMT, HC49/4HSMX, 20 MHz, ±30ppm; Manufacturer Part Number: 830028710; Manufacturer: Wurth Elektronik; Frequency Stability: 50ppm; Load Capacitance: 18pF; Category: Crystals; Match Code: WE-XTAL; ComponentLink1Description: Website Link; ComponentLink1URL: https://www.we-online.com/redexpert/article/830028710?ad; ComponentLink2Description: Datasheet Link; ComponentLink2URL: https://www.we-online.com/redexpert/spec/830028710?ad; Mount: Surface Mount; Min Operating Temperature: -40°C; Max Operating Temperature: 85°C; Packaging: Tape and Reel; Case/Size Code: HC49/4HSMX; Length: 12.4mm; Width: 4.7mm; Height: 4.5mm; Application: Processor, CAN, USB, Ethernet, Wi-Fi; Frequency: 20 MHz; Frequency Tolerance: ±30ppm
footprint WE-XTAL_HC49/4HSMX
pins: 1 OSC1, 2 OSC2

## 830028928
designator Y?, comment 11.0592 MHz
WE-XTAL Quartz Crystal, SMT, HC49/4HSMX, 11.0592 MHz, ±30ppm; Manufacturer Part Number: 830028928; Manufacturer: Wurth Elektronik; Frequency Stability: 50ppm; Load Capacitance: 20pF; Category: Crystals; Match Code: WE-XTAL; ComponentLink1Description: Website Link; ComponentLink1URL: https://www.we-online.com/redexpert/article/830028928?ad; ComponentLink2Description: Datasheet Link; ComponentLink2URL: https://www.we-online.com/redexpert/spec/830028928?ad; Mount: Surface Mount; Min Operating Temperature: -20°C; Max Operating Temperature: 70°C; Packaging: Tape and Reel; Case/Size Code: HC49/4HSMX; Length: 12.4mm; Width: 4.7mm; Height: 4.5mm; Application: Processor, UART; Frequency: 11.0592 MHz; Frequency Tolerance: ±30ppm
footprint WE-XTAL_HC49/4HSMX
pins: 1 OSC1, 2 OSC2

## 830029370
designator Y?, comment 16 MHz
WE-XTAL Quartz Crystal, SMT, HC49/4HSMX, 16 MHz, ±30ppm; Manufacturer Part Number: 830029370; Manufacturer: Wurth Elektronik; Frequency Stability: 50ppm; Load Capacitance: 18pF; Category: Crystals; Match Code: WE-XTAL; ComponentLink1Description: Website Link; ComponentLink1URL: https://www.we-online.com/redexpert/article/830029370?ad; ComponentLink2Description: Datasheet Link; ComponentLink2URL: https://www.we-online.com/redexpert/spec/830029370?ad; Mount: Surface Mount; Min Operating Temperature: -20°C; Max Operating Temperature: 70°C; Packaging: Tape and Reel; Case/Size Code: HC49/4HSMX; Length: 12.4mm; Width: 4.7mm; Height: 4.5mm; Application: Processor, CAN, Bluetooth; Frequency: 16 MHz; Frequency Tolerance: ±30ppm
footprint WE-XTAL_HC49/4HSMX
pins: 1 OSC1, 2 OSC2

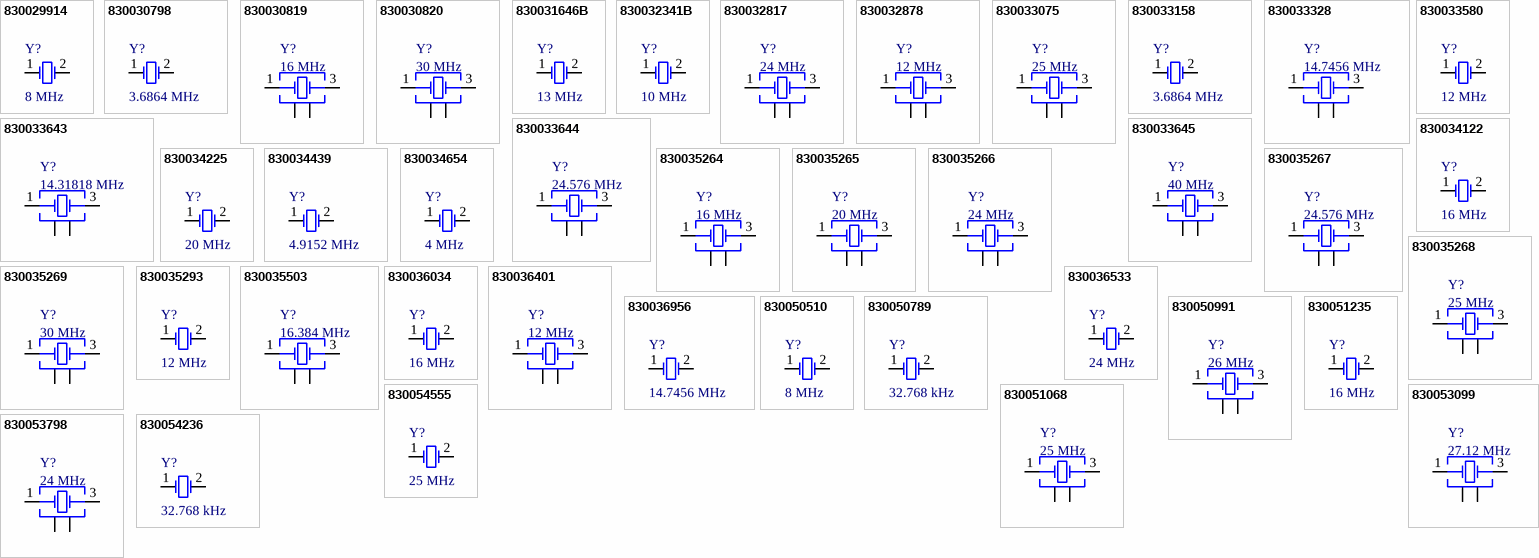
[diagram p3: symbols 830029914 to 830054555]

## 830029914
designator Y?, comment 8 MHz
WE-XTAL Quartz Crystal, SMT, HC49/4HSMX, 8 MHz, ±30ppm; Manufacturer Part Number: 830029914; Manufacturer: Wurth Elektronik; Frequency Stability: 50ppm; Load Capacitance: 16pF; Category: Crystals; Match Code: WE-XTAL; ComponentLink1Description: Website Link; ComponentLink1URL: https://www.we-online.com/redexpert/article/830029914?ad; ComponentLink2Description: Datasheet Link; ComponentLink2URL: https://www.we-online.com/redexpert/spec/830029914?ad; Mount: Surface Mount; Min Operating Temperature: -40°C; Max Operating Temperature: 85°C; Packaging: Tape and Reel; Case/Size Code: HC49/4HSMX; Length: 12.4mm; Width: 4.7mm; Height: 4.5mm; Application: Processor, UART; Frequency: 8 MHz; Frequency Tolerance: ±30ppm
footprint WE-XTAL_HC49/4HSMX
pins: 1 OSC1, 2 OSC2

## 830030798
designator Y?, comment 3.6864 MHz
WE-XTAL Quartz Crystal, SMT, HC49/4HSMX, 3.6864 MHz, ±30ppm; Manufacturer Part Number: 830030798; Manufacturer: Wurth Elektronik; Frequency Stability: 50ppm; Load Capacitance: 16pF; Category: Crystals; Match Code: WE-XTAL; ComponentLink1Description: Website Link; ComponentLink1URL: https://www.we-online.com/redexpert/article/830030798?ad; ComponentLink2Description: Datasheet Link; ComponentLink2URL: https://www.we-online.com/redexpert/spec/830030798?ad; Mount: Surface Mount; Min Operating Temperature: -40°C; Max Operating Temperature: 85°C; Packaging: Tape and Reel; Case/Size Code: HC49/4HSMX; Length: 12.4mm; Width: 4.7mm; Height: 4.5mm; Application: Processor, UART; Frequency: 3.6864 MHz; Frequency Tolerance: ±30ppm
footprint WE-XTAL_HC49/4HSMX
pins: 1 OSC1, 2 OSC2

## 830030819
designator Y?, comment 16 MHz
WE-XTAL Quartz Crystal, SMT, CFPX-104, 16 MHz, ±50ppm; Manufacturer Part Number: 830030819; Manufacturer: Wurth Elektronik; Load Capacitance: 18pF; Category: Crystals; Match Code: WE-XTAL; ComponentLink1Description: Website Link; ComponentLink1URL: https://www.we-online.com/redexpert/article/830030819?ad; ComponentLink2Description: Datasheet Link; ComponentLink2URL: https://www.we-online.com/redexpert/spec/830030819?ad; Mount: Surface Mount; Min Operating Temperature: -10°C; Max Operating Temperature: 60°C; Packaging: Tape and Reel; Case/Size Code: CFPX-104; Length: 5mm; Width: 3.2mm; Height: 1mm; Application: Processor, CAN, Bluetooth; Frequency: 16 MHz; Frequency Stability: 50ppm; Frequency Tolerance: ±50ppm
footprint WE-XTAL_CFPX-104
pins: 1 Crystal, 2 GND & Lid, 3 Crystal, 4 GND & Lid